# Altium schematic symbol library BC847.SchLib: 1 symbol
Pins are listed as number, name and electrical type; pins without a type are passive.

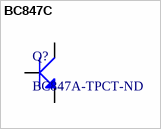
[diagram p0: symbol BC847C]

## BC847C
designator Q?, comment BC847A-TPCT-ND
ID: BC847A-TPCT-ND; PRICE: 0.21000; BUY_LINK: http://www.digikey.com/product-detail/en/BC847A-TP/BC847A-TPCT-ND/819672; PDF: http://www.mccsemi.com/up_pdf/BC846A-BC849C(SOT-23).pdf
footprint BC847
pins: B, C, E